# Altium footprint library LED SMD 0805.PcbLib: 1 footprints
Each footprint in its own frame and in the unit in brackets; x right, y up, seen from the top. Pads: shape width x height; smd on the part's side, far side on the other; paste and mask are expansions set on the pad; w line width, h text height; cw(c..) or ccw(c..) is an arc to the next point about the centre after c.
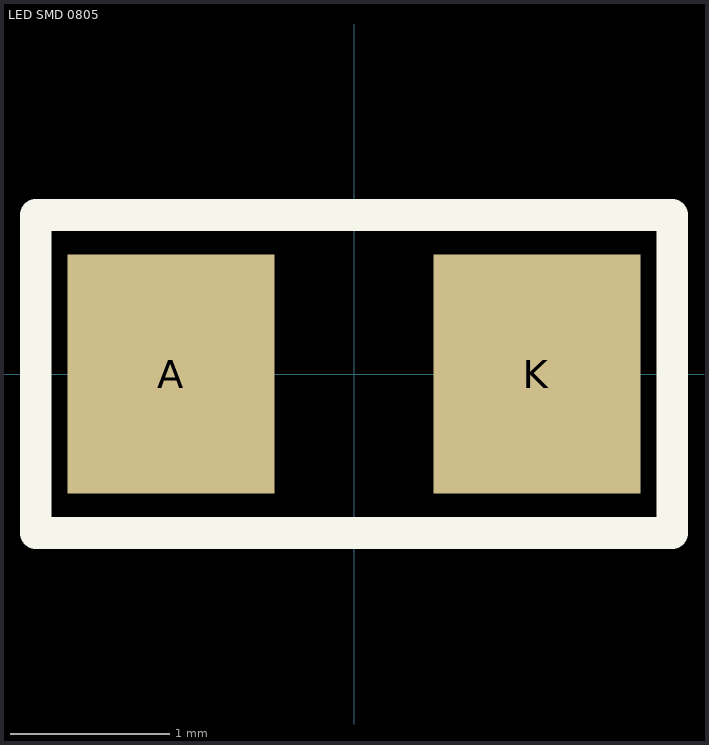
[diagram p0: the footprint, top view; thin cyan lines are the x and y axes]

## LED SMD 0805 [mm] "LED SMD 0805"
pads (2):
  rect 1.3x1.5 smd: A(-1.15,0) K(1.15,0)
Top Overlay:
  lines w0.2: -2,-1 -2,1 2,1 2,-1 -2,-1
3D body "LED-SMD-0805.step": height 1.1, standoff 0, extent -1.01,-0.625 1.01,0.625